# EAGLE library part LTC3802 (library PowerProducts)
Dual 550kHz Synchronous 2-Phase DC/DC Controller with Programmable Up/Down Tracking
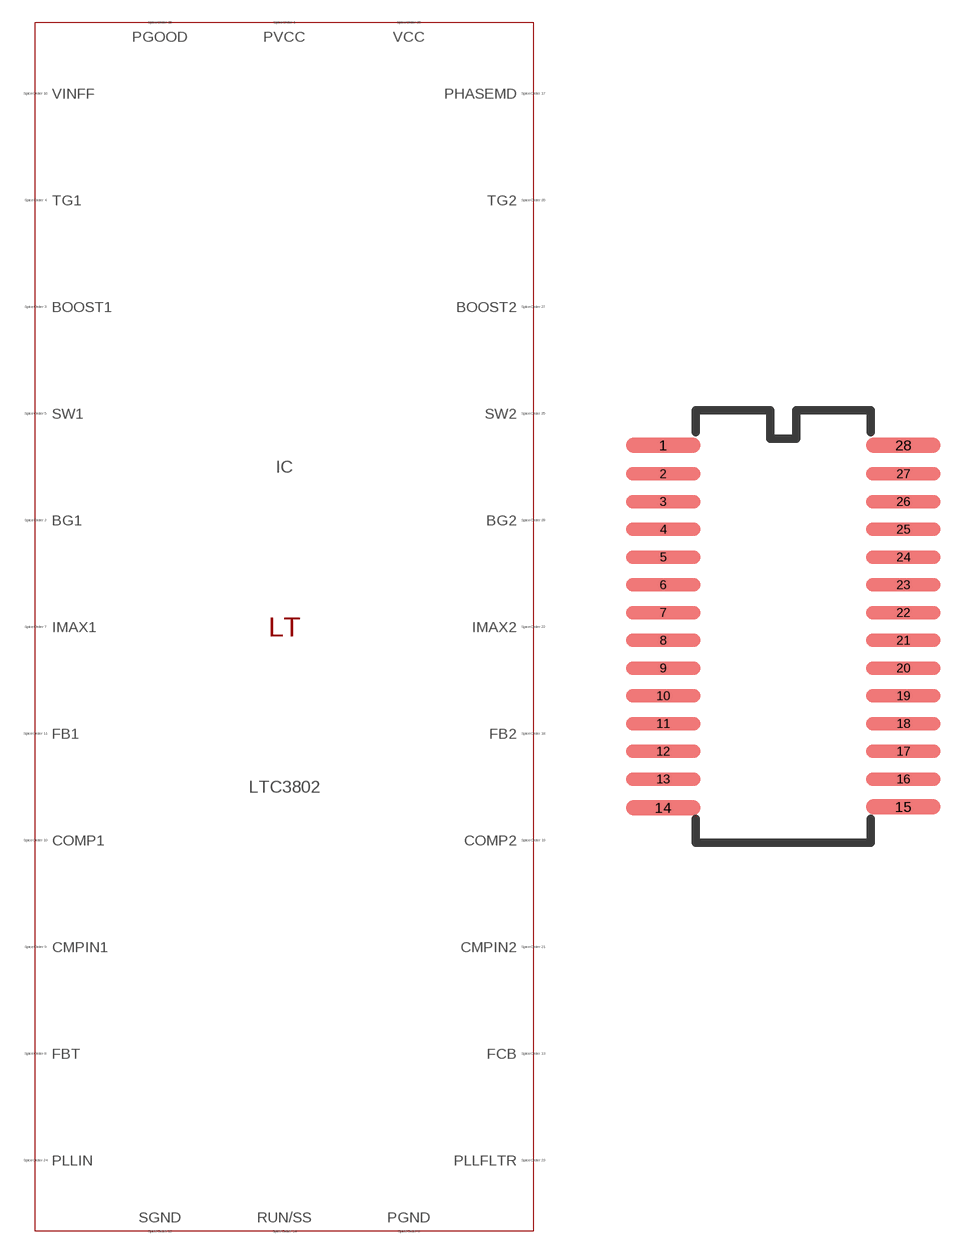
[diagram p333: symbol with the pads of SSOP28(GN); footprint SSOP28(GN)]

Designator prefix IC

## LTC3802 (SPICEMODEL: LTC3802.sub; SPICEPREFIX: X; VALUE2: LTC3802)  [SSOP28(GN)]
1  PVCC  pas
2  BG1  pas
3  BOOST1  pas
4  TG1  pas
5  SW1  pas
6  PGND  pas
7  IMAX1  pas
8  FBT  pas
9  CMPIN1  pas
10  COMP1  pas
11  FB1  pas
12  SGND  pas
13  FCB  pas
14  RUN/SS  pas
15  PGOOD  pas
16  VINFF  pas
17  PHASEMD  pas
18  FB2  pas
19  COMP2  pas
20  VCC  pas
21  CMPIN2  pas
22  IMAX2  pas
23  PLLFLTR  pas
24  PLLIN  pas
25  SW2  pas
26  TG2  pas
27  BOOST2  pas
28  BG2  pas

## Footprint SSOP28(GN) (pad centres in mm)
Package generated from: SSOP28(GN).asc (!PADS-POWERPCB-V5.0-BASIC! DESIGN DATABASE ASCII FILE 1.0) with :import-pads-powerpcb-v5.ulp Version 1.0.1 at 04.10.2012 14:11:39
smd 2.55 x 0.525: 1 -4.123,6.221; 14 -4.123,-6.221; 15 4.123,-6.191; 28 4.123,6.221
smd 2.55 x 0.458: 2 -4.123,5.239; 3 -4.123,4.286; 4 -4.123,3.334; 5 -4.123,2.381; 6 -4.123,1.429; 7 -4.123,0.476; 8 -4.123,-0.476; 9 -4.123,-1.429; 10 -4.123,-2.381; 11 -4.123,-3.334; 12 -4.123,-4.286; 13 -4.123,-5.239; 16 4.123,-5.239; 17 4.123,-4.286; 18 4.123,-3.334; 19 4.123,-2.381; 20 4.123,-1.429; 21 4.123,-0.476; 22 4.123,0.476; 23 4.123,1.429; 24 4.123,2.381; 25 4.123,3.334; 26 4.123,4.286; 27 4.123,5.239